# Altium footprint library Chip_kz85.PcbLib: 314 footprints (part 4 of 20)
Each footprint in its own frame and in the unit in brackets; x right, y up, seen from the top. Pads: shape width x height; smd on the part's side, far side on the other; paste and mask are expansions set on the pad; w line width, h text height; cw(c..) or ccw(c..) is an arc to the next point about the centre after c.
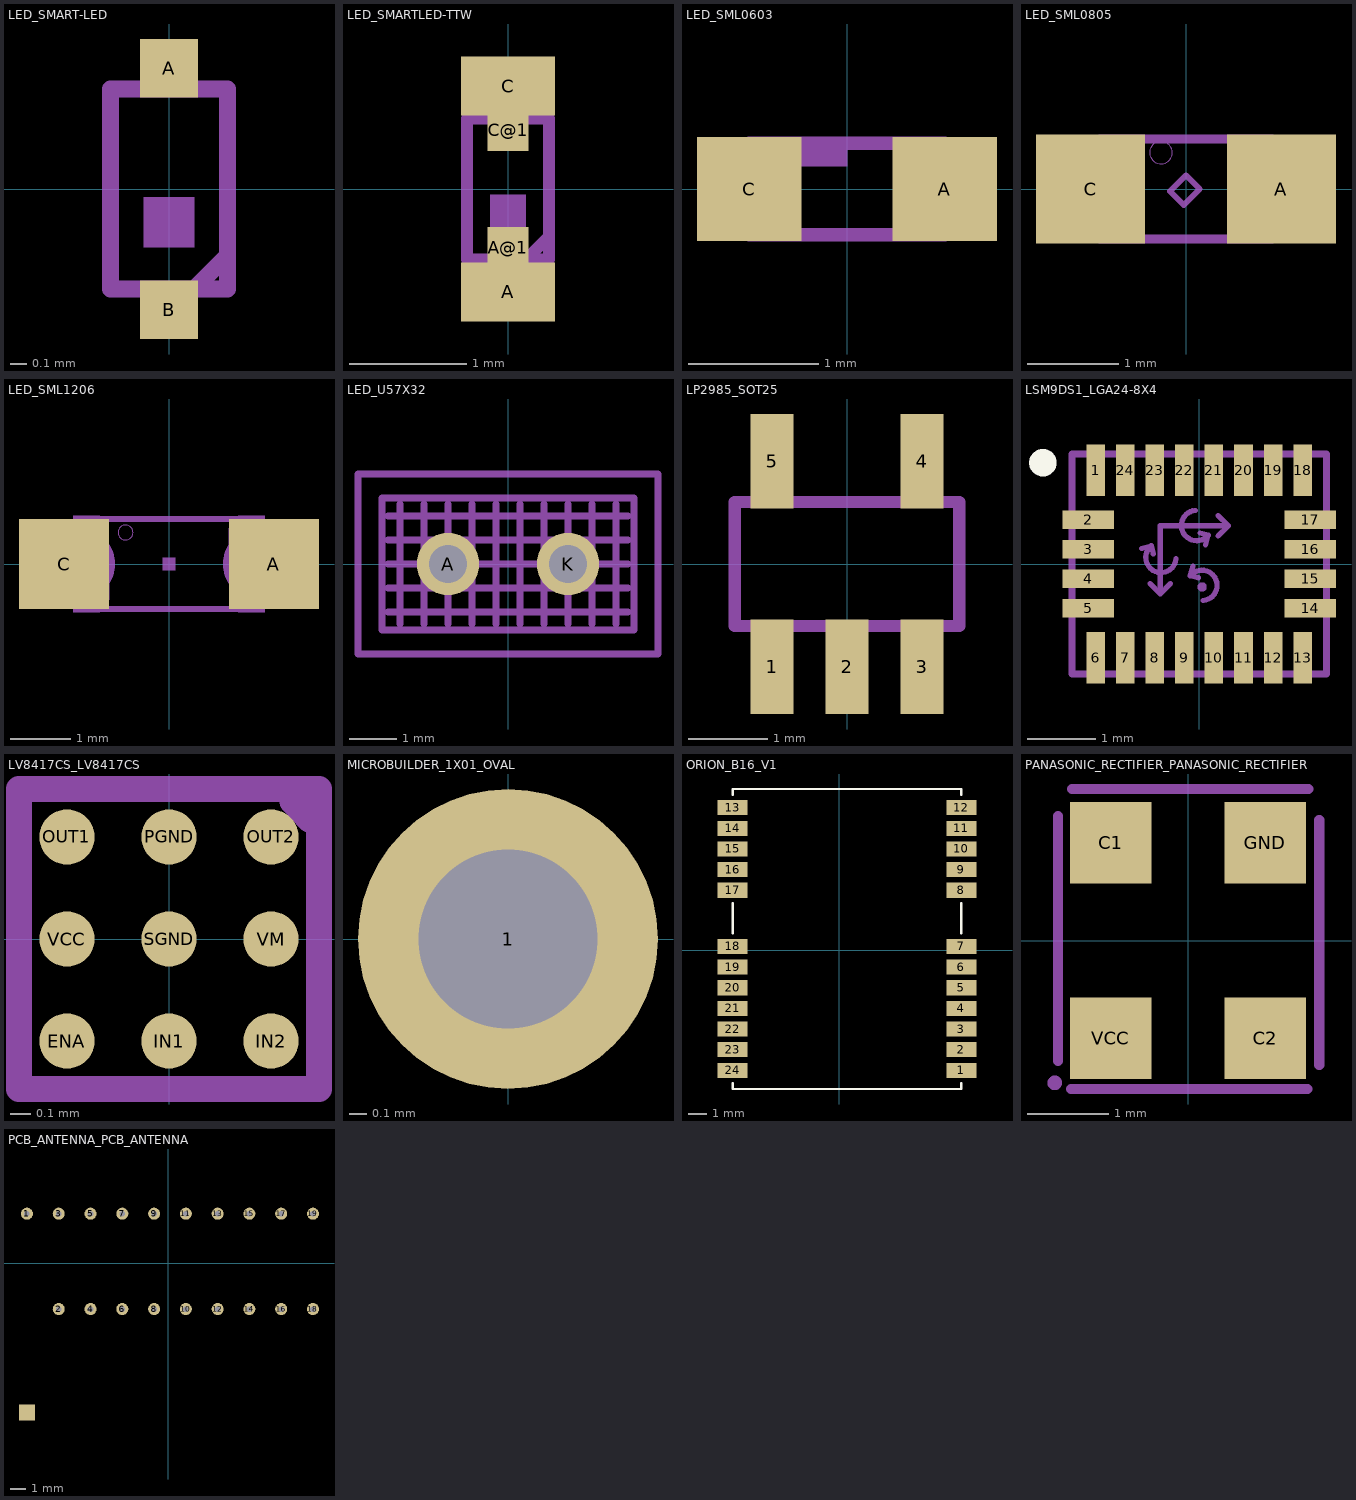
[diagram p3: the footprints below, top view; thin cyan lines are the x and y axes]

## LED_SMART-LED [mm]
pads (2):
  rect 0.35x0.35 smd: A(0,0.725) B(0,-0.725)
Mechanical 3:
  region: -0.15,-0.85 -0.15,-0.6 0.15,-0.6 0.15,-0.85
  region: -0.15,0.6 -0.15,0.85 0.15,0.85 0.15,0.6
  lines w0.102: -0.35,-0.6 0.15,-0.6 ; -0.35,0.6 0.35,0.6 ; 0.35,-0.6 0.15,-0.6 ; 0.35,-0.4 0.15,-0.6
Mechanical 7:
  region: -0.15,-0.35 -0.15,-0.05 0.15,-0.05 0.15,-0.35
  lines w0.102: -0.35,-0.6 -0.35,0.6 ; 0.35,-0.6 0.35,0.6

## LED_SMARTLED-TTW [mm]
pads (4):
  rect 0.8x0.5 smd paste+0 mask+0: A(0,-0.875) C(0,0.875)
  rect 0.35x0.35 smd paste+0 mask+0: A@1(0,-0.5) C@1(0,0.5)
Top Paste:
  region: 0.225,-0.3 0.225,-0.975 -0.225,-0.975 -0.225,-0.3
  region: -0.225,0.3 -0.225,0.975 0.225,0.975 0.225,0.3
Top Solder:
  region: 0.175,-0.325 0.175,-0.7 -0.175,-0.7 -0.175,-0.325
  region: -0.175,0.325 -0.175,0.7 0.175,0.7 0.175,0.325
Mechanical 3:
  region: -0.15,-0.85 -0.15,-0.6 0.15,-0.6 0.15,-0.85
  region: -0.15,0.6 -0.15,0.85 0.15,0.85 0.15,0.6
  lines w0.102: -0.35,-0.6 0.15,-0.6 ; -0.35,0.6 0.35,0.6 ; 0.35,-0.6 0.15,-0.6 ; 0.35,-0.4 0.15,-0.6
Mechanical 7:
  region: -0.15,-0.35 -0.15,-0.05 0.15,-0.05 0.15,-0.35
  lines w0.102: -0.35,-0.6 -0.35,0.6 ; 0.35,-0.6 0.35,0.6

## LED_SML0603 [mil]
pads (2):
  rect 31.5x31.5 smd: A(29.53,0) C(-29.53,0)
Mechanical 3:
  region: -15.75,6.89 -15.75,15.75 0,15.75 0,6.89
  lines w4: -17.72,-11.81 -17.72,11.81 ; 17.72,-11.81 17.72,11.81 ; -29.53,-13.78 -29.53,13.78 29.53,13.78 29.53,-13.78 -29.53,-13.78
Mechanical 7:
  region: -9.84,6.89 -9.84,15.75 0,15.75 0,6.89
  lines w4: -7.87,-13.78 7.87,-13.78 ; -7.87,13.78 7.87,13.78

## LED_SML0805 [mil]
pads (2):
  rect 47.24x47.24 smd: A(41.34,0) C(-41.34,0)
Mechanical 3:
  lines w4: -37.4,-21.65 -37.4,21.65 37.4,21.65 37.4,-21.65 -37.4,-21.65
Mechanical 7:
  circle w0: c-10.83,15.75 r4.92
  lines w2.5: -6.89,-0.98 -0.98,-6.89 5.91,0 0,5.91 -6.89,-0.98

## LED_SML1206 [mil]
pads (2):
  rect 59.06x59.06 smd: A(68.9,0) C(-68.9,0)
Mechanical 3:
  region: 46.26,23.62 46.26,10.83 39.37,10.83 39.37,23.62
  region: 62.99,31.5 62.99,15.75 45.28,15.75 45.28,31.5
  region: 62.99,-15.75 62.99,-31.5 45.28,-31.5 45.28,-15.75
  region: -46.26,-23.62 -46.26,-10.83 -39.37,-10.83 -39.37,-23.62
  region: -62.99,-31.5 -62.99,-15.75 -45.28,-15.75 -45.28,-31.5
  region: -62.99,15.75 -62.99,31.5 -45.28,31.5 -45.28,15.75
  lines w4: -61.02,-29.53 61.02,-29.53 ; -61.02,29.53 61.02,29.53
  lines w8: -59.06,-19.69 ccw(c-59.06,0) -59.06,19.69 ; 59.06,-19.69 cw(c59.06,0) 59.06,19.69
Mechanical 7:
  circle w0: c-28.54,20.67 r4.92
  region: -3.94,-3.94 -3.94,3.94 3.94,3.94 3.94,-3.94

## LED_U57X32 [mil]
pads (2):
  round 52 hole 32: A(-50,0) K(50,0)
Mechanical 3:
  lines w6: -100,-40 100,-40 ; -100,-20 100,-20 ; -100,0 100,0 ; -100,20 100,20 ; -100,40 100,40 ; -90,-50 -90,50 ; -70,-50 -70,50 ; -50,-50 -50,50 ; -30,-50 -30,50 ; -10,-50 -10,50 ; 10,-50 10,50 ; 30,-50 30,50 ; 50,-50 50,50 ; 70,-50 70,50 ; 90,-50 90,50
Mechanical 7:
  lines w6: -125,-75 -125,75 125,75 125,-75 -125,-75 ; -105,-55 -105,55 105,55 105,-55 -105,-55

## LP2985_SOT25 [mil]
pads (5):
  rect 21.65x47.24 smd: 1(-37.4,-51.18) 2(0,-51.18) 3(37.4,-51.18) 4(37.4,51.18) 5(-37.4,51.18)
Mechanical 3:
  region: -47.24,33.46 -47.24,59.06 -27.56,59.06 -27.56,33.46
  region: 27.56,33.46 27.56,59.06 47.24,59.06 47.24,33.46
  region: 27.56,-59.06 27.56,-33.46 47.24,-33.46 47.24,-59.06
  region: -9.84,-59.06 -9.84,-33.46 9.84,-33.46 9.84,-59.06
  region: -47.24,-59.06 -47.24,-33.46 -27.56,-33.46 -27.56,-59.06
  lines w6: -55.98,-30.91 55.98,-30.91 ; -55.98,30.91 55.98,30.91
Mechanical 7:
  lines w6: -52.28,-30.91 -55.98,-30.91 -55.98,30.91 -52.28,30.91 ; -20.55,-30.91 -16.85,-30.91 ; -20.55,30.91 20.55,30.91 ; 16.85,-30.91 20.55,-30.91 ; 52.28,-30.91 55.98,-30.91 55.98,30.91 52.28,30.91

## LSM9DS1_LGA24-8X4 [mm]
pads (24):
  rect 0.27x0.75 smd: 1(-1.505,1.365) 6(-1.505,-1.365) 7(-1.075,-1.365) 8(-0.645,-1.365) 9(-0.215,-1.365) 10(0.215,-1.365) 11(0.645,-1.365) 12(1.075,-1.365) 13(1.505,-1.365) 18(1.505,1.365) 19(1.075,1.365) 20(0.645,1.365) 21(0.215,1.365) 22(-0.215,1.365) 23(-0.645,1.365) 24(-1.075,1.365)
  rect 0.75x0.27 smd: 2(-1.615,0.645) 3(-1.615,0.215) 4(-1.615,-0.215) 5(-1.615,-0.645) 14(1.615,-0.645) 15(1.615,-0.215) 16(1.615,0.215) 17(1.615,0.645)
Top Overlay:
  circle w0.2: c-2.273,1.473 r0.1
Mechanical 3:
  circle w0.076: c0.043,-0.334 r0.028
  lines w0.076: -0.837,0.225 -0.697,0.265 ; -0.717,-0.285 -0.567,-0.435 -0.417,-0.285 ; -0.667,0.145 -0.697,0.265 ; -0.567,-0.432 -0.567,0.556 0.425,0.556 ; -0.337,0.075 cw(c-0.556,0.095) -0.697,0.265 ; -0.09,-0.03 -0.13,-0.17 ; -0.059,0.78 ccw(c-0.038,0.56) 0.131,0.419 ; -0.01,-0.2 -0.13,-0.17 ; 0.011,0.449 0.131,0.419 ; 0.06,-0.53 ccw(c0.04,-0.311) -0.13,-0.17 ; 0.091,0.279 0.131,0.419 ; 0.275,0.406 0.425,0.556 ; 0.275,0.706 0.425,0.556
  lines w0.102: -1.85,-1.6 -1.85,1.6 1.85,1.6 1.85,-1.6 -1.85,-1.6
  text "X" at 0.603,0.557 h0.46
  text "Z" at 0.354,0.063 h0.46
  text "Y" at -0.571,-0.647 h0.46

## LV8417CS_LV8417CS [mm]
pads (9):
  rrect100% 0.27x0.27 smd: ENA(-0.5,-0.5) IN1(0,-0.5) IN2(0.5,-0.5) OUT1(-0.5,0.5) OUT2(0.5,0.5) PGND(0,0.5) SGND(0,0) VCC(-0.5,0) VM(0.5,0)
Mechanical 7:
  lines w0.127: 0.606,0.673 0.689,0.585 ; -0.735,-0.735 -0.735,0.735 0.735,0.735 0.735,-0.735 -0.735,-0.735

## MICROBUILDER_1X01_OVAL [mil]
pads (1):
  round 66 hole 39.37: 1(0,0)
Mechanical 3:
  region: -10,-10 -10,10 10,10 10,-10

## ORION_B16_V1 [mm]
pads (24):
  rect 1.6x0.8 smd: 1(6.5,-6.4) 2(6.5,-5.3) 3(6.5,-4.2) 4(6.5,-3.1) 5(6.5,-2) 6(6.5,-0.9) 7(6.5,0.2) 8(6.5,3.2) 9(6.5,4.3) 10(6.5,5.4) 11(6.5,6.5) 12(6.5,7.6) 13(-5.7,7.6) 14(-5.7,6.5) 15(-5.7,5.4) 16(-5.7,4.3) 17(-5.7,3.2) 18(-5.7,0.2) 19(-5.7,-0.9) 20(-5.7,-2) 21(-5.7,-3.1) 22(-5.7,-4.2) 23(-5.7,-5.3) 24(-5.7,-6.4)
Top Overlay:
  lines w0.127: -5.7,-7.1 -5.7,-7.4 6.5,-7.4 6.5,-7.1 ; -5.7,0.9 -5.7,2.5 ; -5.7,8.3 -5.7,8.6 6.5,8.6 6.5,8.3 ; 6.5,0.9 6.5,2.5

## PANASONIC_RECTIFIER_PANASONIC_RECTIFIER [mm]
pads (4):
  rect 1x1 smd: C1(-0.95,1.2) C2(0.95,-1.2) GND(0.95,1.2) VCC(-0.95,-1.2)
Mechanical 7:
  circle w0.127: c-1.638,-1.748 r0.025
  lines w0.127: -1.599,-1.475 -1.599,1.525 ; -1.438,-1.824 1.462,-1.824 ; -1.425,1.861 1.475,1.861 ; 1.611,-1.525 1.611,1.475

## PCB_ANTENNA_PCB_ANTENNA [mm]
pads (20):
  round 0.756 hole 0.35: 1(-8.89,3.11) 2(-6.89,-2.89) 3(-6.89,3.11) 4(-4.89,-2.89) 5(-4.89,3.11) 6(-2.89,-2.89) 7(-2.89,3.11) 8(-0.89,-2.89) 9(-0.89,3.11) 10(1.11,-2.89) 11(1.11,3.11) 12(3.11,-2.89) 13(3.11,3.11) 14(5.11,-2.89) 15(5.11,3.11) 16(7.11,-2.89) 17(7.11,3.11) 18(9.11,-2.89) 19(9.11,3.11)
  rect 1x1 smd: ANTENNA(-8.89,-9.39)

## PCBComponent_1 [mil]

## PCBComponent_1 - duplicate [mil]

## PCBComponent_1 - duplicate1 [mil]